# Altium schematic symbol library 9-6437287-8.SchLib: 1 symbol
Pins are listed as number, name and electrical type; pins without a type are passive.

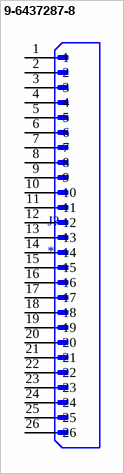
[diagram p0: symbol 9-6437287-8]

## 9-6437287-8
designator J?
MF: {'manufacturer': 'TE Connectivity'}; MP: 9-6437287-8; Package: None; Value: *; Availability: Unavailable; Price: None
footprint TE_9-6437287-8
pins: 1, 2, 3, 4, 5, 6, 7, 8, 9, 10, 11, 12, 13, 14, 15, 16, 17, 18, 19, 20, 21, 22, 23, 24, 25, 26